# EAGLE library part RFM26W (library hoperf)
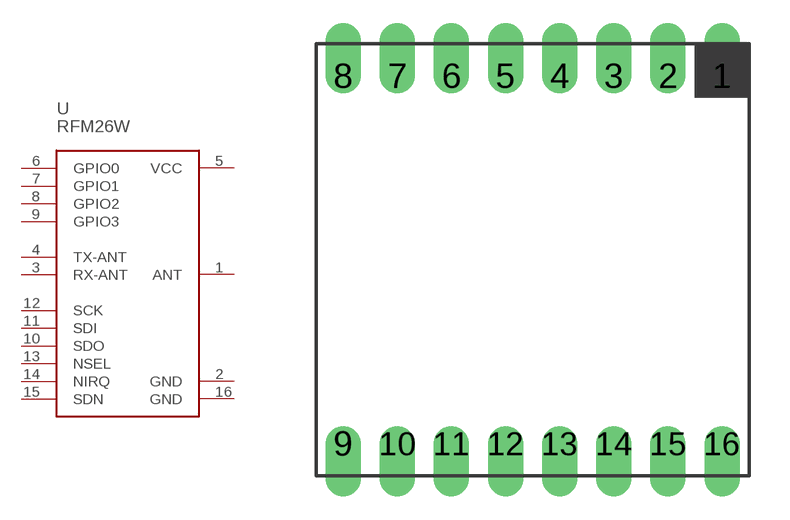
[diagram p0: symbol with the pads of MODULE_16X16_16PIN; footprint MODULE_16X16_16PIN]

Designator prefix -

## RFM26W  [MODULE_16X16_16PIN]
1  ANT
2  GND
3  RX-ANT
4  TX-ANT
5  VCC
6  GPIO0
7  GPIO1
8  GPIO2
9  GPIO3
10  SDO
11  SDI
12  SCK
13  NSEL
14  NIRQ
15  SDN
16  GND

## Footprint MODULE_16X16_16PIN (pad centres in mm)
drill 0.8 offset: 1 7,6.8; 2 5,6.8; 3 3,6.8; 4 1,6.8; 5 -1,6.8; 6 -3,6.8; 7 -5,6.8; 8 -7,6.8; 9 -7,-6.8; 10 -5,-6.8; 11 -3,-6.8; 12 -1,-6.8; 13 1,-6.8; 14 3,-6.8; 15 5,-6.8; 16 7,-6.8